# EAGLE library part LM2907 (library texas)
Voltage to Frequency Convertor
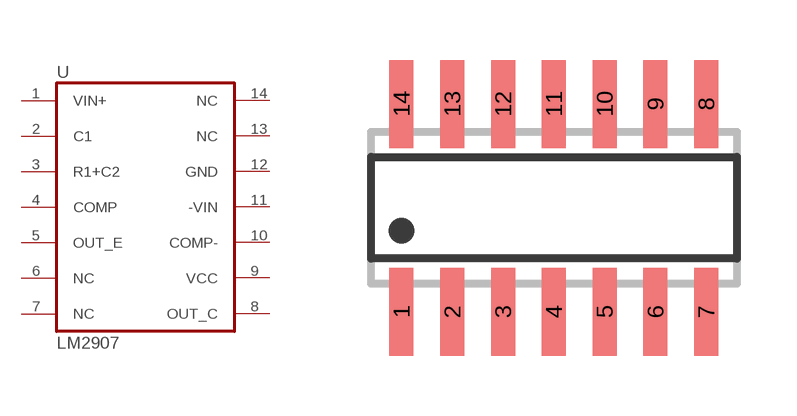
[diagram p99: symbol with the pads of SO14; footprint SO14]

Designator prefix U

## LM2907  [SO14]
1  VIN+
2  C1  in
3  R1+C2  in
4  COMP  in
5  OUT_E  oc
6  NC  nc
7  NC  nc
8  OUT_C  hiz
9  VCC  pwr
10  COMP-  in
11  -VIN  in
12  GND  pwr
13  NC  nc
14  NC  nc

## Footprint SO14 (pad centres in mm)
SMALL OUTLINE INTEGRATED CIRCUIT body 3.9 mm/JEDEC MS-012AC
smd 0.6 x 2.2: 1 -3.81,-2.6; 2 -2.54,-2.6; 3 -1.27,-2.6; 4 0,-2.6; 5 1.27,-2.6; 6 2.54,-2.6; 7 3.81,-2.6; 8 3.81,2.6; 9 2.54,2.6; 10 1.27,2.6; 11 0,2.6; 12 -1.27,2.6; 13 -2.54,2.6; 14 -3.81,2.6